# EAGLE library part LTC1877 (library DC-DC convertor)
LTC1877 ANALOG DEVICES @2018-10 link <http://www.analog.com/jp/products/ltc1877.html>
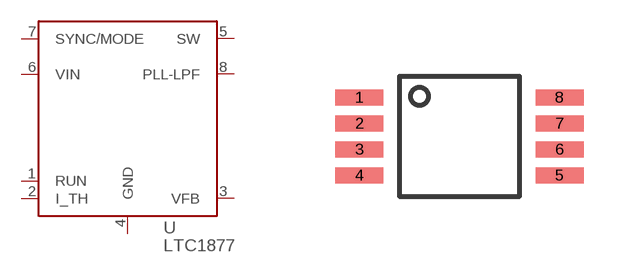
[diagram p1: symbol with the pads of MS8(8PIN,MSOP); footprint MS8(8PIN,MSOP)]

Designator prefix U

## LTC1877MSOP  [MS8(8PIN,MSOP)]
1  RUN
2  I_TH
3  VFB
4  GND
5  SW
6  VIN
7  SYNC/MODE
8  PLL-LPF

## Footprint MS8(8PIN,MSOP) (pad centres in mm)
MS8 package ; MSOP 8Pin ( 0.65mm pitch)
smd 1.2 x 0.4: 1 -2.5,0.975; 2 -2.5,0.325; 3 -2.5,-0.325; 4 -2.5,-0.975; 5 2.5,-0.975; 6 2.5,-0.325; 7 2.5,0.325; 8 2.5,0.975